# Altium schematic symbol library Sensor Gas.SchLib: 1 symbol
Pins are listed as number, name and electrical type; pins without a type are passive.

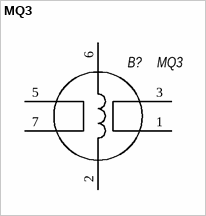
[diagram p0: symbol MQ3]

## MQ3
designator B?
pins: 1 B2, 2 H-, 3 B1, 5 A1, 6 H+, 7 A2